# Altium footprint library WS-SLTU.PcbLib: 1 footprints
Each footprint in its own frame and in the unit in brackets; x right, y up, seen from the top. Pads: shape width x height; smd on the part's side, far side on the other; paste and mask are expansions set on the pad; w line width, h text height; cw(c..) or ccw(c..) is an arc to the next point about the centre after c.
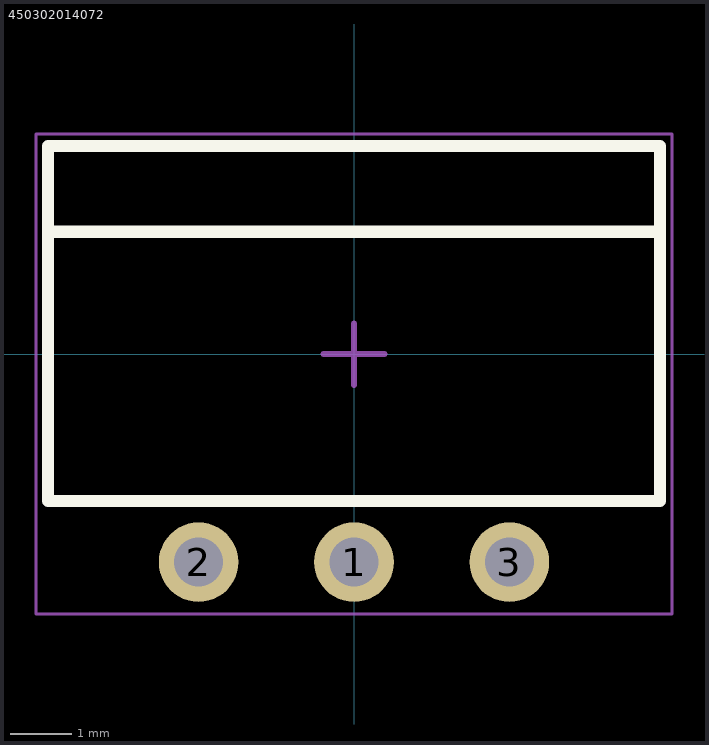
[diagram p0: the footprint, top view; thin cyan lines are the x and y axes]

## 450302014072 [mm] "10mm*2.5mm. SPDT, ON-ON, 2.54mm, right-angle type, THT, bulk"
height 2.5
pads (3):
  round 1.3 hole 0.8: 1(0,-3.4) 2(-2.54,-3.4) 3(2.54,-3.4)
Top Overlay:
  lines w0.2: -5,2 5,2 ; -5,-2.4 -5,3.4 5,3.4 5,-2.4 -5,-2.4
Top Assembly:
  lines w0.1: -5,2 5,2 ; -5,-2.4 5,-2.4 5,3.4 -5,3.4 -5,-2.4
Top Designator:
  text ".Designator" at -3.647,-0.357 h1
Top 3D Body:
  lines w0.1: -5,2 5,2 ; -5,-2.4 5,-2.4 5,3.4 -5,3.4 -5,-2.4
Top Courtyard:
  lines w0.05: -5.2,-4.25 5.2,-4.25 5.2,3.6 -5.2,3.6 -5.2,-4.25
Top Component Center:
  lines w0.1: -0.5,0 0.5,0 ; 0,-0.5 0,0.5
3D body "450302014072.stp": height 2.55, standoff -3.65, extent -5,-3.7 5,3.4